# EAGLE library part CN3082 (library consonance)
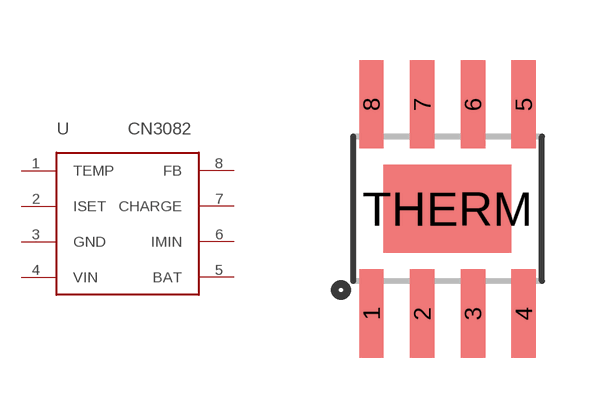
[diagram p1: symbol with the pads of SOP8; footprint SOP8]

Designator prefix U

## CN3082  [SOP8]
1  TEMP
2  ISET
3  GND
4  VIN
5  BAT
6  IMIN
7  CHARGE
8  FB

## Footprint SOP8 (pad centres in mm)
smd 0.61 x 2.21: 1 -1.905,-2.616; 2 -0.635,-2.616; 3 0.635,-2.616; 4 1.905,-2.616; 5 1.905,2.616; 6 0.635,2.616; 7 -0.635,2.616; 8 -1.905,2.616
smd 3.2 x 2.2: THERM 0,0